# EAGLE library part RF22301 (library GeekAmmo)
RFD22301 RFDuino Bluetooth 4.0 Low Energy BLE RF Module With Built-In ARM Cortex M0 Microconroller Hi performance, professional grade Bluetooth 4.0 Low Energy radio transceiver with built-in ARM Cortex M0 microcontroller that can be programmed using the simple-to-use Arduino IDE using RFduino extensions. Built-in user application microcontroller with ADC, I2C, SPI, UART and GPIO. http://www.rfduino.com/
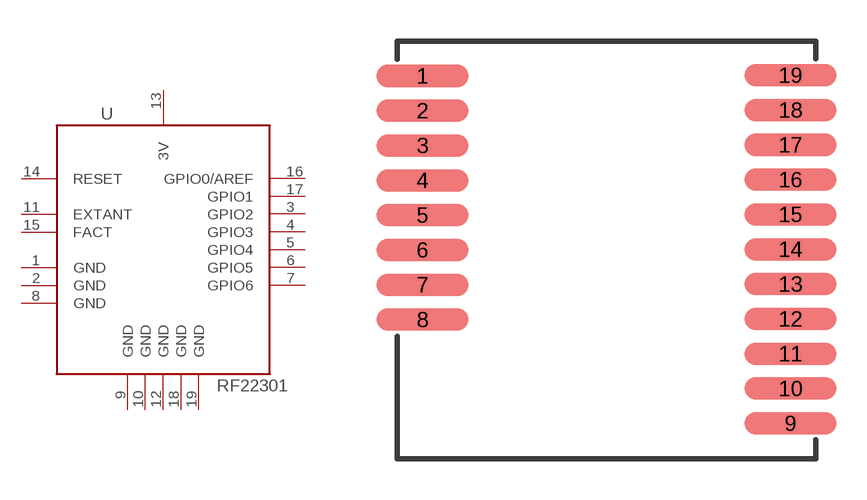
[diagram p6: symbol with the pads of RFD22301; footprint RFD22301]

Designator prefix -

## RF22301  [RFD22301]
1  GND  pwr
2  GND  pwr
3  GPIO2
4  GPIO3
5  GPIO4
6  GPIO5
7  GPIO6
8  GND  pwr
9  GND  pwr
10  GND  pwr
11  EXTANT
12  GND  pwr
13  3V
14  RESET
15  FACT
16  GPIO0/AREF
17  GPIO1
18  GND  pwr
19  GND  pwr

## Footprint RFD22301 (pad centres in mm)
RFD22301 Core of RFDuino
smd 3.353 x 0.813: 1 0,0; 2 0,-1.27; 3 0,-2.54; 4 0,-3.81; 5 0,-5.08; 6 0,-6.35; 7 0,-7.62; 8 0,-8.89; 9 13.411,-12.675; 10 13.411,-11.405; 11 13.411,-10.135; 12 13.411,-8.865; 13 13.411,-7.595; 14 13.411,-6.325; 15 13.411,-5.055; 16 13.411,-3.785; 17 13.411,-2.515; 18 13.411,-1.245; 19 13.411,0.025